# Altium footprint library AO3400A.PcbLib: 3 footprints
Each footprint in its own frame and in the unit in brackets; x right, y up, seen from the top. Pads: shape width x height; smd on the part's side, far side on the other; paste and mask are expansions set on the pad; w line width, h text height; cw(c..) or ccw(c..) is an arc to the next point about the centre after c.
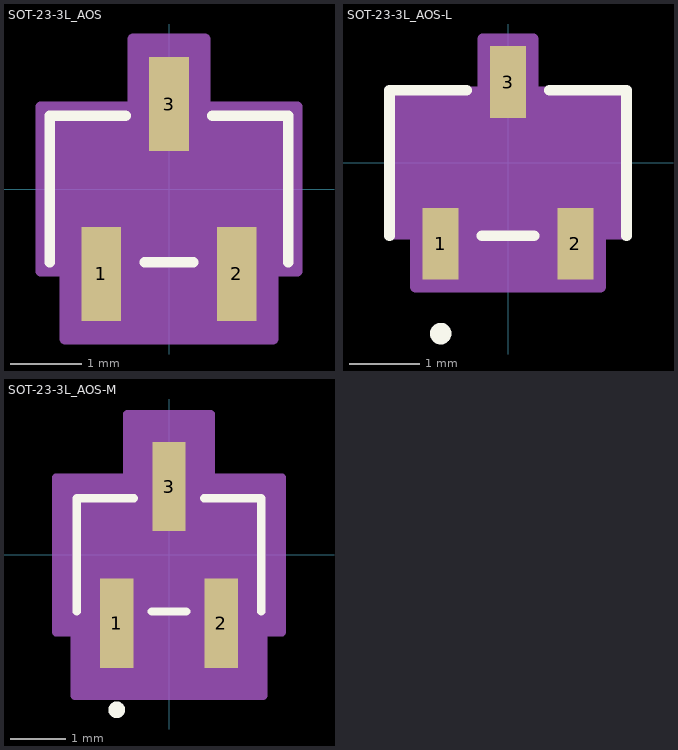
[diagram p0: the footprints below, top view; thin cyan lines are the x and y axes]

## SOT-23-3L_AOS [mil]
pads (3):
  rect 22x52 smd paste+0 mask+0: 1(-37.5,-47) 2(37.5,-47) 3(0,47)
Top Overlay:
  lines w6: -66,-40.5 -66,40.5 -24.1,40.5 ; -13.4,-40.5 13.4,-40.5 ; 24.1,40.5 66,40.5 66,-40.5
  text ".Designator" at -137.5,-25 h50
Mechanical 13:
  circle w1: c-37.5,-25.5 r0
  lines w1: -61,-35.5 61,-35.5 61,35.5 -61,35.5 -61,-35.5 ; -47.5,-59 -47.5,-35.5 -27.5,-35.5 -27.5,-59 -47.5,-59 ; -10,35.5 10,35.5 10,59 -10,59 -10,35.5 ; 27.5,-59 27.5,-35.5 47.5,-35.5 47.5,-59 27.5,-59
  text ".Designator" at -137.5,-25 h50
Mechanical 15:
  region: -71,-45.5 -71,45.5 -20,45.5 -20,83 20,83 20,45.5 71,45.5 71,-45.5 57.5,-45.5 57.5,-83 -57.5,-83 -57.5,-45.5
  lines w6: -71,-45.5 -71,45.5 -20,45.5 -20,83 20,83 20,45.5 71,45.5 71,-45.5 57.5,-45.5 57.5,-83 -57.5,-83 -57.5,-45.5 -71,-45.5
3D body "SOT-23-3L_AOS.step": height 49.09, standoff 0, extent -60.98,-59.02 60.98,59.02

## SOT-23-3L_AOS-L [mil]
pads (3):
  rect 20x40 smd paste+0 mask+0: 1(-37.5,-45) 2(37.5,-45) 3(0,45)
Top Overlay:
  circle w6: c-37.5,-95 r3
  lines w6: -66,-40.5 -66,40.5 -23.1,40.5 ; -14.4,-40.5 14.4,-40.5 ; 23.1,40.5 66,40.5 66,-40.5
  text ".Designator" at -137.5,-25 h50
Mechanical 13:
  circle w1: c-37.5,-25.5 r3
  lines w1: -61,-35.5 61,-35.5 61,35.5 -61,35.5 -61,-35.5 ; -47.5,-59 -47.5,-35.5 -27.5,-35.5 -27.5,-59 -47.5,-59 ; -10,35.5 10,35.5 10,59 -10,59 -10,35.5 ; 27.5,-59 27.5,-35.5 47.5,-35.5 47.5,-59 27.5,-59
  text ".Designator" at -137.5,-25 h50
Mechanical 15:
  region: -65,-39.5 -65,39.5 -14,39.5 -14,69 14,69 14,39.5 65,39.5 65,-39.5 51.5,-39.5 51.5,-69 -51.5,-69 -51.5,-39.5
  lines w6: -65,-39.5 -65,39.5 -14,39.5 -14,69 14,69 14,39.5 65,39.5 65,-39.5 51.5,-39.5 51.5,-69 -51.5,-69 -51.5,-39.5 -65,-39.5
3D body "SOT-23-3L_AOS.step": height 49.09, standoff 0, extent -60.98,-59.02 60.98,59.02

## SOT-23-3L_AOS-M [mil]
pads (3):
  rect 24x64 smd paste+0 mask+0: 1(-37.5,-49) 2(37.5,-49) 3(0,49)
Top Overlay:
  circle w6: c-37.5,-111 r3
  lines w6: -66,-40.5 -66,40.5 -25.1,40.5 ; -12.4,-40.5 12.4,-40.5 ; 25.1,40.5 66,40.5 66,-40.5
  text ".Designator" at -137.5,-25 h50
Mechanical 13:
  circle w1: c-37.5,-25.5 r3
  lines w1: -61,-35.5 61,-35.5 61,35.5 -61,35.5 -61,-35.5 ; -47.5,-59 -47.5,-35.5 -27.5,-35.5 -27.5,-59 -47.5,-59 ; -10,35.5 10,35.5 10,59 -10,59 -10,35.5 ; 27.5,-59 27.5,-35.5 47.5,-35.5 47.5,-59 27.5,-59
  text ".Designator" at -137.5,-25 h50
Mechanical 15:
  region: -81,-55.5 -81,55.5 -30,55.5 -30,101 30,101 30,55.5 81,55.5 81,-55.5 67.5,-55.5 67.5,-101 -67.5,-101 -67.5,-55.5
  lines w6: -81,-55.5 -81,55.5 -30,55.5 -30,101 30,101 30,55.5 81,55.5 81,-55.5 67.5,-55.5 67.5,-101 -67.5,-101 -67.5,-55.5 -81,-55.5
3D body "SOT-23-3L_AOS.step": height 49.09, standoff 0, extent -60.98,-59.02 60.98,59.02